# Altium schematic symbol library PC JACK.SCHLIB: 30 symbols
Pins are listed as number, name and electrical type; pins without a type are passive.

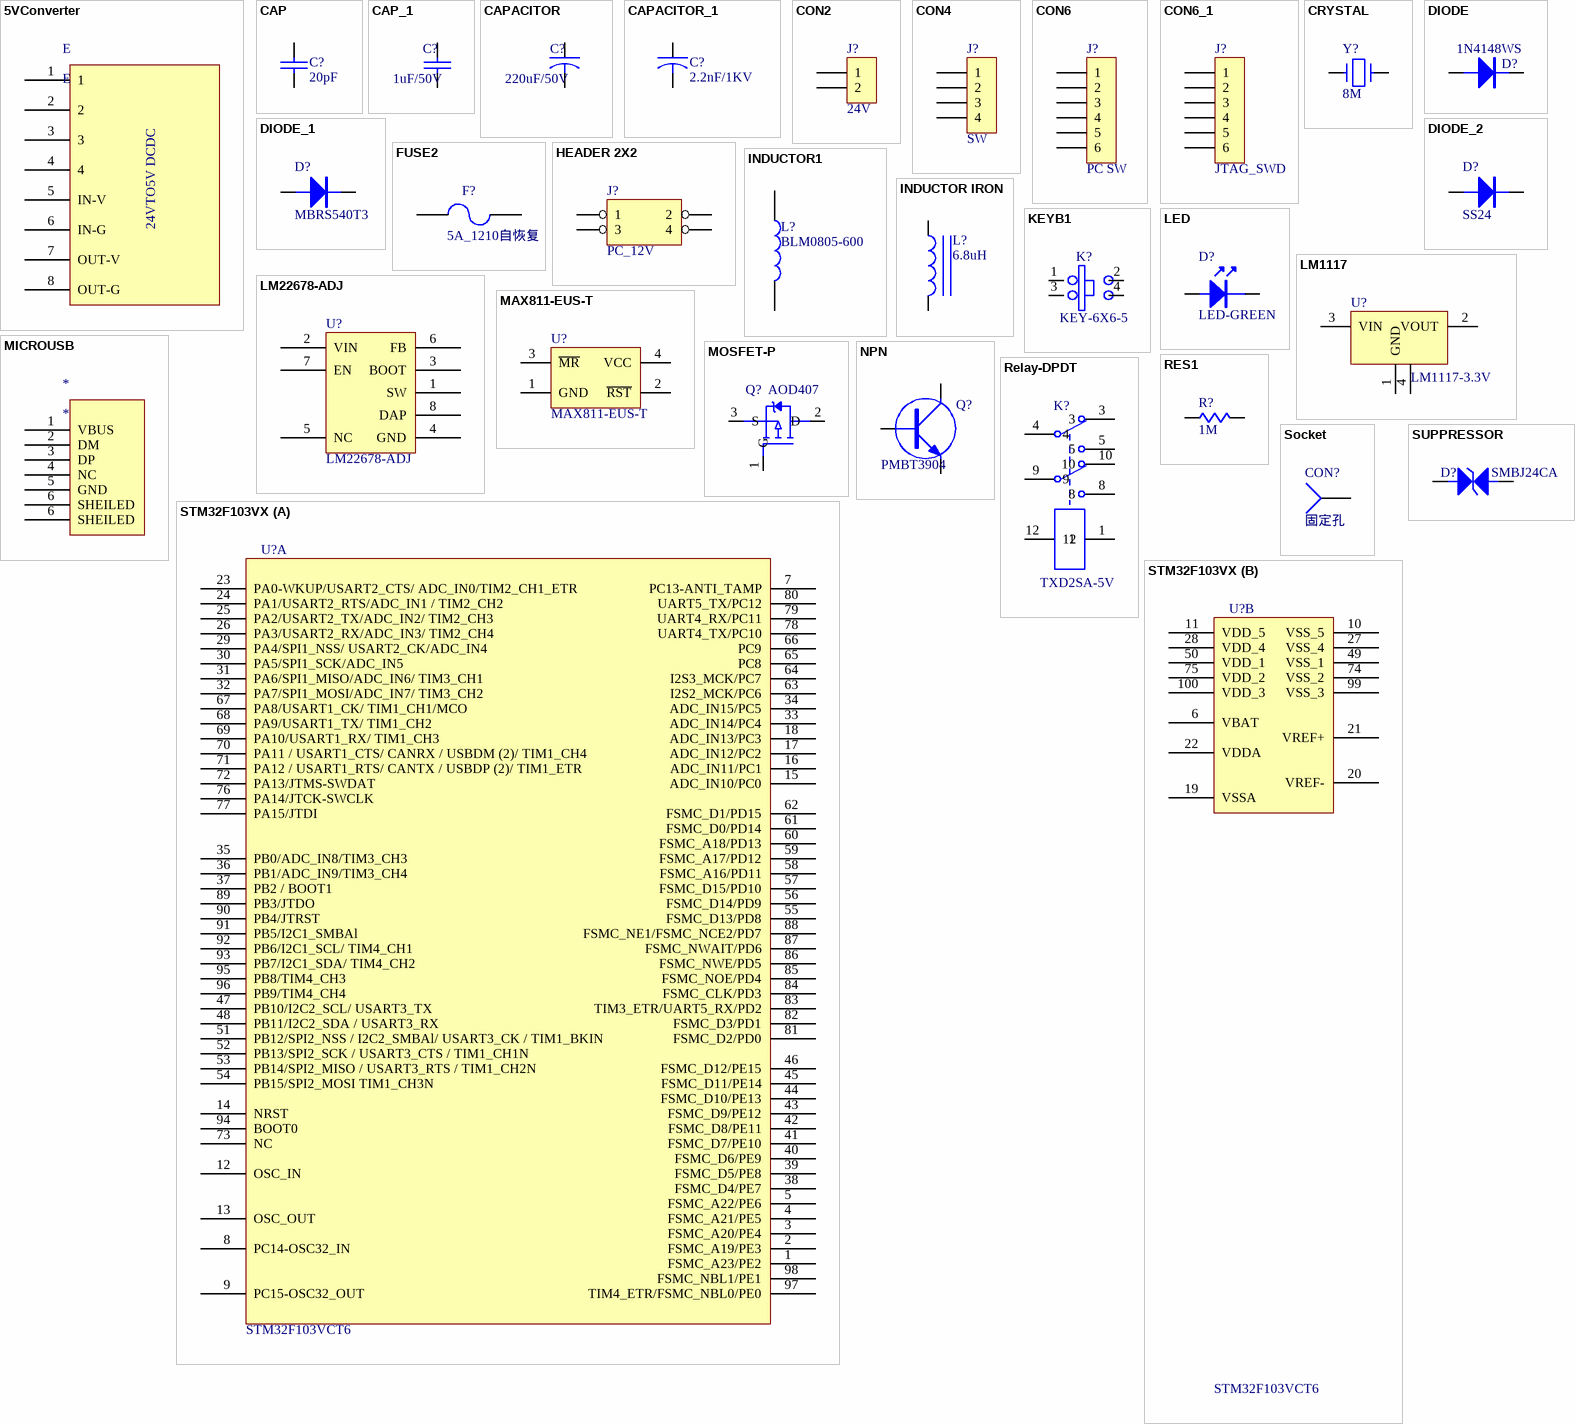
[diagram p0: symbols 5VConverter to SUPPRESSOR]

## 5VConverter
designator E, comment E
pins: 1, 2, 3, 4, 5 IN-V, 6 IN-G, 7 OUT-V, 8 OUT-G
text: 24VTO5V DCDC

## CAP
designator C?, comment 20pF
Capacitor
footprint C0603
pins: 1, 2

## CAP_1
designator C?, comment 1uF/50V
Capacitor
footprint C0805 (Chip Capacitor; Body 2.0 x 1.2 mm (LxW typ))
pins: 1, 2

## CAPACITOR
designator C?, comment 220uF/50V
Capacitor
footprint CD-8
footprint CD-6
pins: 1, 2

## CAPACITOR_1
designator C?, comment 2.2nF/1KV
Capacitor
footprint DIP_2P (Footprint not found)
pins: 1, 2

## CON2
designator J?, comment 24V
Connector
footprint Molex-2P-6.2mm
pins: 1, 2

## CON4
designator J?, comment SW
Connector
footprint SIP-4P-2.54mm
pins: 1, 2, 3, 4

## CON6
designator J?, comment PC SW
Connector
footprint PH2.0-6P-90
pins: 1, 2, 3, 4, 5, 6

## CON6_1
designator J?, comment JTAG_SWD
Connector
footprint FPC-6P-0.5MM
pins: 1, 2, 3, 4, 5, 6

## CRYSTAL
designator Y?, comment 8M
Crystal
footprint 5032-2P
pins: 1, 2

## DIODE
designator D?, comment 1N4148WS
Diode
footprint SOD-323 (Footprint not found)
pins: 1 A, 2 K

## DIODE_1
designator D?, comment MBRS540T3
Diode
footprint DO-214AB
pins: 1 A, 2 K

## DIODE_2
designator D?, comment SS24
Diode
footprint DO-214AC
pins: 1 A, 2 K

## FUSE2
designator F?, comment 5A_1210自恢复
Fuse
footprint F1210 (Footprint not found)
pins: 1, 2

## HEADER 2X2
designator J?, comment PC_12V
footprint Molex-4P (Footprint not found)
pins: 1, 2, 3, 4

## INDUCTOR1
designator L?, comment BLM0805-600
footprint L0805
pins: 1, 2

## INDUCTOR IRON
designator L?, comment 6.8uH
footprint SCDS103R (Footprint not found)
pins: 1, 2

## KEYB1
designator K?, comment KEY-6X6-5
footprint KB-6X6-T
pins: 1, 2, 3, 4

## LED
designator D?, comment LED-GREEN
footprint LED-0805
pins: 1, 2

## LM1117
designator U?, comment LM1117-3.3V
footprint SOT-223
pins: 1 GND, 2 VOUT, 3 VIN, 4

## LM22678-ADJ
designator U?
footprint TO-263-7 (Footprint not found)
pins: 1 SW, 2 VIN, 3 BOOT, 4 GND, 5 NC, 6 FB, 7 EN, 8 DAP

## MAX811-EUS-T
designator U?
4-Pin 礟 Voltage Monitors with Manual Reset Input; Published: 16-Jan-2001; LatestRevisionDate: 29-May-2009; LatestRevisionNote: IPC-7351 Footprint Added.; DatasheetVersion: Feb-1998; PackageVersion: Feb-1998; PackageReference: SOT143; Publisher: Altium Limited; PackageDescription: 4-Pin SOT-143 Package 1.9 mm Pitch, 2.3 mm Lead Span; ComponentLink1Description: Manufacturer Link; ComponentLink1URL: http://www.maxim-ic.com/; ComponentLink2Description: Datasheet; ComponentLink2URL: http://pdfserv.maxim-ic.com/en/ds/MAX811-MAX812.pdf
footprint SOT143_N
footprint SOT143_L
footprint SOT143_M
footprint SOT-143 (SOT-143; 4 Leads; Body 3 x 2.6 mm, inc. leads (LxW max))
pins: 1 GND (power), 2 ~{RST}, 3 ~{MR}, 4 VCC (power)
2 alternate drawings of the same symbol

## MICROUSB
designator *
pins: 1 VBUS, 2 DM, 3 DP, 4 NC, 5 GND, 6 SHEILED, 6 SHEILED

## MOSFET-P
designator Q?, comment AOD407
footprint TO-252-4
pins: 1 G, 2 D, 3 S

## NPN
designator Q?, comment PMBT3904
NPN Transistor
footprint SOT-23 (SOT-23; 3 Leads; Body 3.0 x 2.6 mm, inc. leads (LxW max))
pins: 1 B, 2 E, 3 C

## Relay-DPDT
designator K?, comment TXD2SA-5V
Dual-Pole Dual-Throw Relay; Published: 24-Mar-1999; LatestRevisionDate: 17-Jul-2002; LatestRevisionNote: Re-released for DXP Platform.; PackageReference: DIP-P8; Publisher: Altium Limited
footprint HG_8SM_15X9R4 (Footprint not found)
pins: 1, 3, 4, 5, 8, 9, 10, 12

## RES1
designator R?, comment 1M
footprint R0603
pins: 1, 2

## Socket
designator CON?, comment 固定孔
Socket; LatestRevisionDate: 17-Jul-2002; LatestRevisionNote: Re-released for DXP Platform.; Publisher: Altium Limited
signal-integrity model Connector
footprint FPAD_1 (Footprint not found)
pins: 1

## STM32F103VX
designator U?, comment STM32F103VCT6
footprint LQFP-100
part A pins: 1 FSMC_A23/PE2, 2 FSMC_A19/PE3, 3 FSMC_A20/PE4, 4 FSMC_A21/PE5, 5 FSMC_A22/PE6, 7 PC13-ANTI_TAMP, 8 PC14-OSC32_IN, 9 PC15-OSC32_OUT, 12 OSC_IN, 13 OSC_OUT, 14 NRST, 15 ADC_IN10/PC0, 16 ADC_IN11/PC1, 17 ADC_IN12/PC2, 18 ADC_IN13/PC3, 23 PA0-WKUP/USART2_CTS/
ADC_IN0/TIM2_CH1_ETR, 24 PA1/USART2_RTS/ADC_IN1
/
TIM2_CH2, 25 PA2/USART2_TX/ADC_IN2/
TIM2_CH3, 26 PA3/USART2_RX/ADC_IN3/
TIM2_CH4, 29 PA4/SPI1_NSS/
USART2_CK/ADC_IN4, 30 PA5/SPI1_SCK/ADC_IN5, 31 PA6/SPI1_MISO/ADC_IN6/
TIM3_CH1, 32 PA7/SPI1_MOSI/ADC_IN7/
TIM3_CH2, 33 ADC_IN14/PC4, 34 ADC_IN15/PC5, 35 PB0/ADC_IN8/TIM3_CH3, 36 PB1/ADC_IN9/TIM3_CH4, 37 PB2 / BOOT1, 38 FSMC_D4/PE7, 39 FSMC_D5/PE8, 40 FSMC_D6/PE9, 41 FSMC_D7/PE10, 42 FSMC_D8/PE11, 43 FSMC_D9/PE12, 44 FSMC_D10/PE13, 45 FSMC_D11/PE14, 46 FSMC_D12/PE15, 47 PB10/I2C2_SCL/
USART3_TX, 48 PB11/I2C2_SDA /
USART3_RX, 51 PB12/SPI2_NSS /
I2C2_SMBAl/
USART3_CK /
TIM1_BKIN, 52 PB13/SPI2_SCK /
USART3_CTS /
TIM1_CH1N, 53 PB14/SPI2_MISO /
USART3_RTS /
TIM1_CH2N, 54 PB15/SPI2_MOSI
TIM1_CH3N, 55 FSMC_D13/PD8, 56 FSMC_D14/PD9, 57 FSMC_D15/PD10, 58 FSMC_A16/PD11, 59 FSMC_A17/PD12, 60 FSMC_A18/PD13, 61 FSMC_D0/PD14, 62 FSMC_D1/PD15, 63 I2S2_MCK/PC6, 64 I2S3_MCK/PC7, 65 PC8, 66 PC9, 67 PA8/USART1_CK/
TIM1_CH1/MCO, 68 PA9/USART1_TX/
TIM1_CH2, 69 PA10/USART1_RX/
TIM1_CH3, 70 PA11 / USART1_CTS/
CANRX / USBDM (2)/
TIM1_CH4, 71 PA12 / USART1_RTS/
CANTX / USBDP (2)/
TIM1_ETR, 72 PA13/JTMS-SWDAT, 73 NC, 76 PA14/JTCK-SWCLK, 77 PA15/JTDI, 78 UART4_TX/PC10, 79 UART4_RX/PC11, 80 UART5_TX/PC12, 81 FSMC_D2/PD0, 82 FSMC_D3/PD1, 83 TIM3_ETR/UART5_RX/PD2, 84 FSMC_CLK/PD3, 85 FSMC_NOE/PD4, 86 FSMC_NWE/PD5, 87 FSMC_NWAIT/PD6, 88 FSMC_NE1/FSMC_NCE2/PD7, 89 PB3/JTDO, 90 PB4/JTRST, 91 PB5/I2C1_SMBAl, 92 PB6/I2C1_SCL/
TIM4_CH1, 93 PB7/I2C1_SDA/
TIM4_CH2, 94 BOOT0, 95 PB8/TIM4_CH3, 96 PB9/TIM4_CH4, 97 TIM4_ETR/FSMC_NBL0/PE0, 98 FSMC_NBL1/PE1
part B pins: 6 VBAT, 10 VSS_5, 11 VDD_5, 19 VSSA, 20 VREF-, 21 VREF+, 22 VDDA, 27 VSS_4, 28 VDD_4, 49 VSS_1, 50 VDD_1, 74 VSS_2, 75 VDD_2, 99 VSS_3, 100 VDD_3

## SUPPRESSOR
designator D?, comment SMBJ24CA
footprint SMB
pins: 1, 2